# Altium footprint library DR73.PcbLib: 1 footprints
Each footprint in its own frame and in the unit in brackets; x right, y up, seen from the top. Pads: shape width x height; smd on the part's side, far side on the other; paste and mask are expansions set on the pad; w line width, h text height; cw(c..) or ccw(c..) is an arc to the next point about the centre after c.
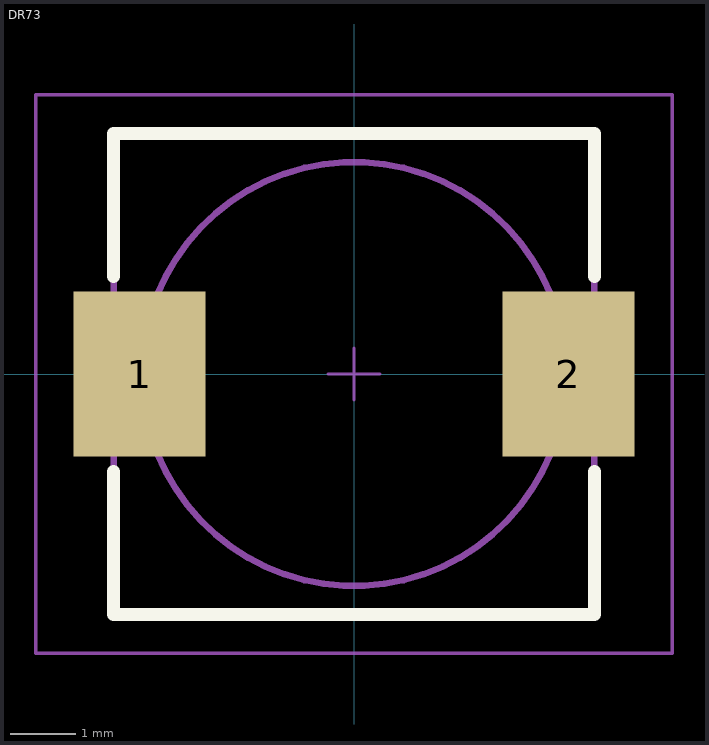
[diagram p0: the footprint, top view; thin cyan lines are the x and y axes]

## DR73 [mil]
height 169.29
pads (2):
  rect 80x100 smd: 1(-130,0) 2(130,0)
Top Overlay:
  lines w7.87: -145.67,-59.06 -145.67,-145.67 145.67,-145.67 145.67,-59.06 ; -145.67,59.06 -145.67,145.67 145.67,145.67 145.67,59.06
Mechanical 13:
  circle w3.94: c0,0 r128.54
  lines w3.94: -145.67,-145.67 145.67,-145.67 145.67,145.67 -145.67,145.67 -145.67,-145.67
Mechanical 15:
  lines w1.97: -15.75,0 15.75,0 ; 0,-15.75 0,15.75 ; -192.91,-169.29 -192.91,169.29 192.91,169.29 192.91,-169.29 -192.91,-169.29
3D body: height 169.29, standoff 0, extent -145.65,-145.65 145.65,145.65